# Altium footprint library con-molex-micro-fit-3_0.PCBLIB: 194 footprints (part 7 of 13)
Each footprint in its own frame and in the unit in brackets; x right, y up, seen from the top. Pads: shape width x height; smd on the part's side, far side on the other; paste and mask are expansions set on the pad; w line width, h text height; cw(c..) or ccw(c..) is an arc to the next point about the centre after c.
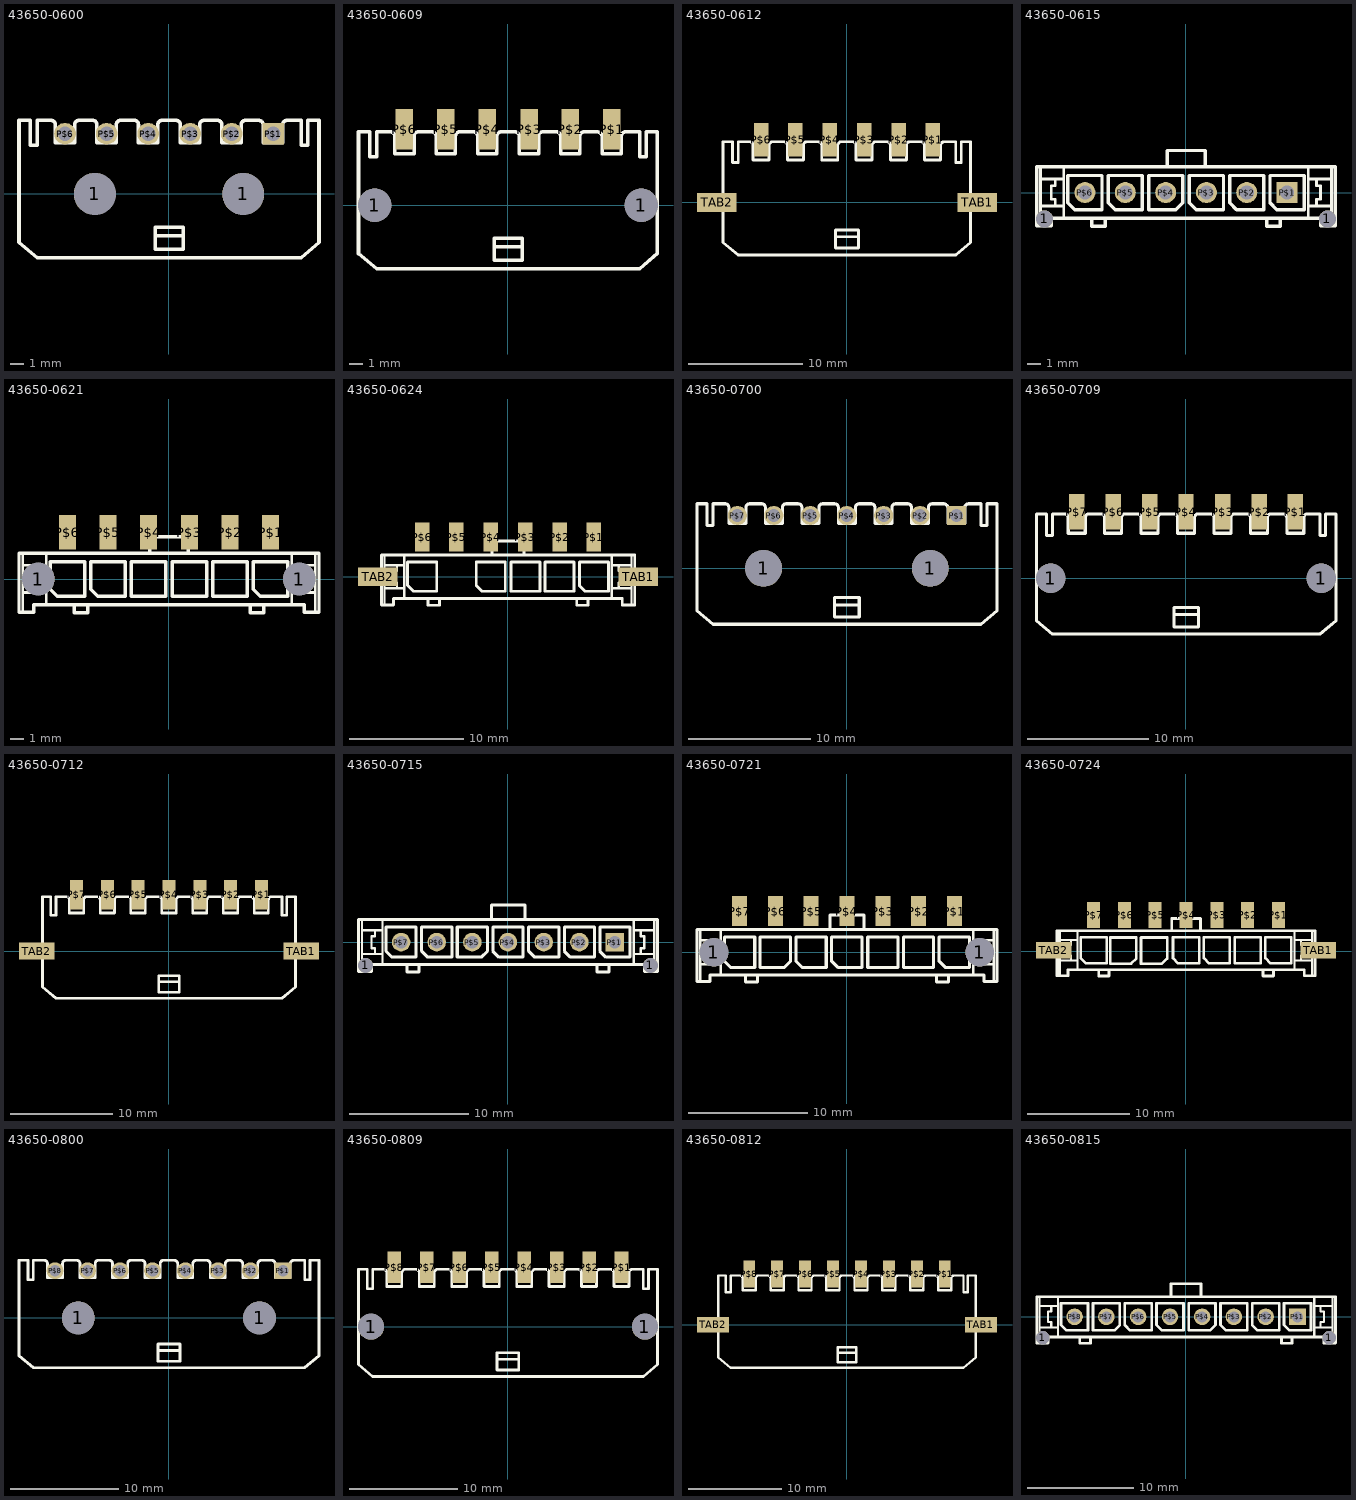
[diagram p6: the footprints below, top view; thin cyan lines are the x and y axes]

## 43650-0600 [mil]
pads (8):
  round 119 hole 119: 1(-210.63,0) 1(211,0)
  rect 61.5x61.5 hole 41: P$1(296,171)
  round 61.5 hole 41: P$2(178,171) P$3(60,171) P$4(-59.06,171) P$5(-177.17,171) P$6(-295.28,171)
Top Overlay:
  lines w10: -39.37,-118.11 -39.37,-157.48 40,-157.48 40,-118.11 ; -39.37,-118.11 -39.37,-94.49 40,-94.49 40,-118.11 ; -39.37,-118.11 40,-118.11 ; -425.98,-137.8 -425.98,209 -393.7,209 -393.7,138 -374.02,138 -374.02,209 -334.65,209 cw(c-334.74,197.09) -322.83,197 -322.83,146 -267.72,146 -267.72,197 cw(c-255.81,197.09) -255.91,209 -216.54,209 cw(c-216.63,197.09) -204.72,197 -204.72,146 -149.61,146 -149.61,197 cw(c-137.7,197.09) -137.8,209 -98.43,209 cw(c-98.52,197.09) -86.61,197 -86.61,146 -31.5,146 -31.5,197 cw(c-19.59,197.09) -19.69,209 20,209 cw(c20,197) 32,197 32,146 87,146 87,197 cw(c99,197) 99,209 138,209 cw(c138,197) 150,197 150,146 205,146 205,197 cw(c217,197) 217,209 256,209 cw(c254,195) 268,197 268,146 323,146 323,197 cw(c335,197) 335,209 375,209 375,138 394,138 394,209 426,209 426,-137.8 375,-181.1 -374.02,-181.1 -425.98,-137.8

## 43650-0609 [mil]
pads (8):
  round 95 hole 95: 1(-379.92,0) 1(380,0)
  rect 50x115 smd: P$1(296,216) P$2(178,216) P$3(60,216) P$4(-59.06,216) P$5(-177.17,216) P$6(-295.28,216)
Top Overlay:
  lines w10: -39.37,-118.11 -39.37,-157.48 40,-157.48 40,-118.11 ; -39.37,-118.11 -39.37,-94.49 40,-94.49 40,-118.11 ; -39.37,-118.11 40,-118.11 ; -425.98,-137.8 -425.98,209 -393.7,209 -393.7,138 -374.02,138 -374.02,209 -334.65,209 cw(c-334.74,197.09) -322.83,197 -322.83,146 -267.72,146 -267.72,197 cw(c-255.81,197.09) -255.91,209 -216.54,209 cw(c-216.63,197.09) -204.72,197 -204.72,146 -149.61,146 -149.61,197 cw(c-137.7,197.09) -137.8,209 -98.43,209 cw(c-98.52,197.09) -86.61,197 -86.61,146 -31.5,146 -31.5,197 cw(c-19.59,197.09) -19.69,209 20,209 cw(c20,197) 32,197 32,146 87,146 87,197 cw(c99,197) 99,209 138,209 cw(c138,197) 150,197 150,146 205,146 205,197 cw(c217,197) 217,209 256,209 cw(c254,195) 268,197 268,146 323,146 323,197 cw(c335,197) 335,209 375,209 375,138 394,138 394,209 426,209 426,-137.8 375,-181.1 -374.02,-181.1 -425.98,-137.8

## 43650-0612 [mil]
pads (8):
  rect 50x115 smd: P$1(296,216) P$2(178,216) P$3(60,216) P$4(-59.06,216) P$5(-177.17,216) P$6(-295.28,216)
  rect 136x65 smd: TAB1(449,0) TAB2(-448.03,0)
Top Overlay:
  lines w10: -39.37,-118.11 -39.37,-157.48 40,-157.48 40,-118.11 ; -39.37,-118.11 -39.37,-94.49 40,-94.49 40,-118.11 ; -39.37,-118.11 40,-118.11 ; -425.98,-137.8 -425.98,209 -393.7,209 -393.7,138 -374.02,138 -374.02,209 -334.65,209 cw(c-334.74,197.09) -322.83,197 -322.83,146 -267.72,146 -267.72,197 cw(c-255.81,197.09) -255.91,209 -216.54,209 cw(c-216.63,197.09) -204.72,197 -204.72,146 -149.61,146 -149.61,197 cw(c-137.7,197.09) -137.8,209 -98.43,209 cw(c-98.52,197.09) -86.61,197 -86.61,146 -31.5,146 -31.5,197 cw(c-19.59,197.09) -19.69,209 20,209 cw(c20,197) 32,197 32,146 87,146 87,197 cw(c99,197) 99,209 138,209 cw(c138,197) 150,197 150,146 205,146 205,197 cw(c217,197) 217,209 256,209 cw(c254,195) 268,197 268,146 323,146 323,197 cw(c335,197) 335,209 375,209 375,138 394,138 394,209 426,209 426,-137.8 375,-181.1 -374.02,-181.1 -425.98,-137.8

## 43650-0615 [mil]
pads (8):
  round 50 hole 50: 1(-413.39,-77.17) 1(414,-77.17)
  rect 61.5x61.5 hole 41: P$1(296,0)
  round 61.5 hole 41: P$2(178,0) P$3(60,0) P$4(-59.06,0) P$5(-177.17,0) P$6(-295.28,0)
Top Overlay:
  lines w8: -425.2,-97.24 -425.2,-39.37 ; -425.2,75 -425.2,40 ; -357.09,-74.8 -357.09,-39.37 ; -357.09,75 -357.09,40 ; 358,-74.8 358,-39.37 ; 358,75 358,40 ; 426,-97.24 426,-39.37 ; 426,75 426,40 ; -425.2,-39.37 -425.2,40 ; -425.2,-39.37 -381.89,-39.37 ; -425.2,40 -381.89,40 ; -381.89,-39.37 -357.09,-39.37 ; -381.89,-39.37 -381.89,-19.68 -393.7,-19.68 -393.7,20 -381.89,20 -381.89,40 ; -381.89,40 -357.09,40 ; -357.09,-39.37 -357.09,40 ; 358,-39.37 358,40 ; 358,-39.37 382,-39.37 ; 358,40 382,40 ; 382,-39.37 426,-39.37 ; 382,-39.37 382,-19.68 394,-19.68 394,20 382,20 382,40 ; 382,40 426,40 ; 426,-39.37 426,40
  lines w10: -275.59,-74.8 -236.22,-74.8 ; -275.59,-74.8 -357.09,-74.8 -393.7,-74.8 -393.7,-97.24 -425.2,-97.24 -436.02,-97.24 -436.02,75 -425.2,75 -357.09,75 -55.12,75 ; -275.59,-74.8 -275.59,-98.43 -236.22,-98.43 -236.22,-74.8 ; -236.22,-74.8 237,-74.8 ; -55.12,75 56,75 ; -55.12,75 -55.12,123 56,123 56,75 ; 56,75 358,75 426,75 437,75 437,-97.24 426,-97.24 394,-97.24 394,-74.8 358,-74.8 276,-74.8 ; 237,-74.8 276,-74.8 ; 237,-74.8 237,-98.43 276,-98.43 276,-74.8 ; -345.28,-30 -345.28,50 -245.28,50 -245.28,-50 -325.28,-50 -345.28,-30 ; -227.17,-30 -227.17,50 -127.17,50 -127.17,-50 -207.17,-50 -227.17,-30 ; -109.06,-50 -109.06,50 -9.06,50 -9.06,-30 -29.06,-50 -109.06,-50 ; 10,-30 10,50 110,50 110,-50 30,-50 10,-30 ; 128,-30 128,50 228,50 228,-50 148,-50 128,-30 ; 246,-30 246,50 346,50 346,-50 266,-50 246,-30

## 43650-0621 [mil]
pads (8):
  round 95 hole 95: 1(-379.92,0) 1(380,0)
  rect 50x100 smd: P$1(296,136) P$2(178,136) P$3(60,136) P$4(-59.06,136) P$5(-177.17,136) P$6(-295.28,136)
Top Overlay:
  lines w8: -425.2,-97.24 -425.2,-39.37 ; -425.2,75 -425.2,40 ; -357.09,-74.8 -357.09,-39.37 ; -357.09,75 -357.09,40 ; 358,-74.8 358,-39.37 ; 358,75 358,40 ; 426,-97.24 426,-39.37 ; 426,75 426,40 ; -425.2,-39.37 -425.2,40 ; -425.2,-39.37 -381.89,-39.37 ; -425.2,40 -381.89,40 ; -381.89,-39.37 -357.09,-39.37 ; -381.89,-39.37 -381.89,-19.68 -393.7,-19.68 -393.7,20 -381.89,20 -381.89,40 ; -381.89,40 -357.09,40 ; -357.09,-39.37 -357.09,40 ; 358,-39.37 358,40 ; 358,-39.37 382,-39.37 ; 358,40 382,40 ; 382,-39.37 426,-39.37 ; 382,-39.37 382,-19.68 394,-19.68 394,20 382,20 382,40 ; 382,40 426,40 ; 426,-39.37 426,40
  lines w10: -275.59,-74.8 -236.22,-74.8 ; -275.59,-74.8 -357.09,-74.8 -393.7,-74.8 -393.7,-97.24 -425.2,-97.24 -436.02,-97.24 -436.02,75 -425.2,75 -357.09,75 -55.12,75 ; -275.59,-74.8 -275.59,-98.43 -236.22,-98.43 -236.22,-74.8 ; -236.22,-74.8 237,-74.8 ; -55.12,75 56,75 ; -55.12,75 -55.12,123 56,123 56,75 ; 56,75 358,75 426,75 437,75 437,-97.24 426,-97.24 394,-97.24 394,-74.8 358,-74.8 276,-74.8 ; 237,-74.8 276,-74.8 ; 237,-74.8 237,-98.43 276,-98.43 276,-74.8 ; -345.28,-30 -345.28,50 -245.28,50 -245.28,-50 -325.28,-50 -345.28,-30 ; -227.17,-30 -227.17,50 -127.17,50 -127.17,-50 -207.17,-50 -227.17,-30 ; -109.06,-50 -9.06,-50 -9.06,50 -109.06,50 -109.06,-50 ; 10,-50 110,-50 110,50 10,50 10,-50 ; 128,-50 228,-50 228,50 128,50 128,-50 ; 246,-30 246,50 346,50 346,-50 266,-50 246,-30

## 43650-0624 [mil]
pads (8):
  rect 50x100 smd: P$1(296,136) P$2(178,136) P$3(60,136) P$4(-59.06,136) P$5(-177.17,136) P$6(-295.28,136)
  rect 136x65 smd: TAB1(449,0) TAB2(-448.43,0)
Top Overlay:
  lines w8: -425.2,-97.24 -425.2,-39.37 ; -425.2,75 -425.2,40 ; -357.09,-74.8 -357.09,-39.37 ; -357.09,75 -357.09,40 ; 358,-74.8 358,-39.37 ; 358,75 358,40 ; 426,-97.24 426,-39.37 ; 426,75 426,40 ; -425.2,-39.37 -425.2,40 ; -425.2,-39.37 -381.89,-39.37 ; -425.2,40 -381.89,40 ; -381.89,-39.37 -357.09,-39.37 ; -381.89,-39.37 -381.89,-19.68 -393.7,-19.68 -393.7,20 -381.89,20 -381.89,40 ; -381.89,40 -357.09,40 ; -357.09,-39.37 -357.09,40 ; 358,-39.37 358,40 ; 358,-39.37 382,-39.37 ; 358,40 382,40 ; 382,-39.37 426,-39.37 ; 382,-39.37 382,-19.68 394,-19.68 394,20 382,20 382,40 ; 382,40 426,40 ; 426,-39.37 426,40
  lines w10: -275.59,-74.8 -236.22,-74.8 ; -275.59,-74.8 -357.09,-74.8 -393.7,-74.8 -393.7,-97.24 -425.2,-97.24 -436.02,-97.24 -436.02,75 -425.2,75 -357.09,75 -55.12,75 ; -275.59,-74.8 -275.59,-98.43 -236.22,-98.43 -236.22,-74.8 ; -236.22,-74.8 237,-74.8 ; -55.12,75 56,75 ; -55.12,75 -55.12,123 56,123 56,75 ; 56,75 358,75 426,75 437,75 437,-97.24 426,-97.24 394,-97.24 394,-74.8 358,-74.8 276,-74.8 ; 237,-74.8 276,-74.8 ; 237,-74.8 237,-98.43 276,-98.43 276,-74.8 ; -345.28,-30 -345.28,50 -245.28,50 -245.28,-50 -325.28,-50 -345.28,-30 ; -109.06,-30 -109.06,50 -9.06,50 -9.06,-50 -89.06,-50 -109.06,-30 ; 10,-50 110,-50 110,50 10,50 10,-50 ; 128,-50 228,-50 228,50 128,50 128,-50 ; 246,-30 246,50 346,50 346,-50 266,-50 246,-30
Bottom Overlay:
  lines w10: -227.17,-50 -227.17,50 -127.17,50 -127.17,-30 -147.17,-50 -227.17,-50

## 43650-0700 [mil]
pads (9):
  round 119 hole 119: 1(-269.69,0) 1(270,0)
  rect 61.5x61.5 hole 41: P$1(355,171)
  round 61.5 hole 41: P$2(237,171) P$3(119,171) P$4(0,171) P$5(-118.11,171) P$6(-236.22,171) P$7(-354.33,171)
Top Overlay:
  lines w10: -39.37,-118.11 -39.37,-157.48 40,-157.48 40,-118.11 ; -39.37,-118.11 -39.37,-94.49 40,-94.49 40,-118.11 ; -39.37,-118.11 40,-118.11 ; -485.04,-137.8 -485.04,209 -452.76,209 -452.76,138 -433.07,138 -433.07,209 -393.7,209 cw(c-393.8,197.09) -381.89,197 -381.89,146 -326.77,146 -326.77,197 cw(c-314.87,197.09) -314.96,209 -275.59,209 cw(c-275.69,197.09) -263.78,197 -263.78,146 -208.66,146 -208.66,197 cw(c-196.76,197.09) -196.85,209 -157.48,209 cw(c-157.57,197.09) -145.67,197 -145.67,146 -90.55,146 -90.55,197 cw(c-78.65,197.09) -78.74,209 -39.37,209 cw(c-39.46,197.09) -27.56,197 -27.56,146 28,146 28,197 cw(c40,197) 40,209 79,209 cw(c79,197) 91,197 91,146 146,146 146,197 cw(c158,197) 158,209 197,209 cw(c197,197) 209,197 209,146 264,146 264,197 cw(c276,197) 276,209 315,209 cw(c313,195) 327,197 327,146 382,146 382,197 cw(c394,197) 394,209 434,209 434,138 453,138 453,209 486,209 486,-137.8 434,-181.1 -433.07,-181.1 -485.04,-137.8

## 43650-0709 [mil]
pads (9):
  round 95 hole 95: 1(-438.98,0) 1(439,0)
  rect 50x115 smd: P$1(355,216) P$2(237,216) P$3(119,216) P$4(0,216) P$5(-118.11,216) P$6(-236.22,216) P$7(-354.33,216)
Top Overlay:
  lines w10: -39.37,-118.11 -39.37,-157.48 40,-157.48 40,-118.11 ; -39.37,-118.11 -39.37,-94.49 40,-94.49 40,-118.11 ; -39.37,-118.11 40,-118.11 ; -485.04,-137.8 -485.04,209 -452.76,209 -452.76,138 -433.07,138 -433.07,209 -393.7,209 cw(c-393.8,197.09) -381.89,197 -381.89,146 -326.77,146 -326.77,197 cw(c-314.87,197.09) -314.96,209 -275.59,209 cw(c-275.69,197.09) -263.78,197 -263.78,146 -208.66,146 -208.66,197 cw(c-196.76,197.09) -196.85,209 -157.48,209 cw(c-157.57,197.09) -145.67,197 -145.67,146 -90.55,146 -90.55,197 cw(c-78.65,197.09) -78.74,209 -39.37,209 cw(c-39.46,197.09) -27.56,197 -27.56,146 28,146 28,197 cw(c40,197) 40,209 79,209 cw(c79,197) 91,197 91,146 146,146 146,197 cw(c158,197) 158,209 197,209 cw(c197,197) 209,197 209,146 264,146 264,197 cw(c276,197) 276,209 315,209 cw(c313,195) 327,197 327,146 382,146 382,197 cw(c394,197) 394,209 434,209 434,138 453,138 453,209 486,209 486,-137.8 434,-181.1 -433.07,-181.1 -485.04,-137.8

## 43650-0712 [mil]
pads (9):
  rect 50x115 smd: P$1(355,216) P$2(237,216) P$3(119,216) P$4(0,216) P$5(-118.11,216) P$6(-236.22,216) P$7(-354.33,216)
  rect 136x65 smd: TAB1(508,0) TAB2(-507.09,0)
Top Overlay:
  lines w10: -39.37,-118.11 -39.37,-157.48 40,-157.48 40,-118.11 ; -39.37,-118.11 -39.37,-94.49 40,-94.49 40,-118.11 ; -39.37,-118.11 40,-118.11 ; -485.04,-137.8 -485.04,209 -452.76,209 -452.76,138 -433.07,138 -433.07,209 -393.7,209 cw(c-393.8,197.09) -381.89,197 -381.89,146 -326.77,146 -326.77,197 cw(c-314.87,197.09) -314.96,209 -275.59,209 cw(c-275.69,197.09) -263.78,197 -263.78,146 -208.66,146 -208.66,197 cw(c-196.76,197.09) -196.85,209 -157.48,209 cw(c-157.57,197.09) -145.67,197 -145.67,146 -90.55,146 -90.55,197 cw(c-78.65,197.09) -78.74,209 -39.37,209 cw(c-39.46,197.09) -27.56,197 -27.56,146 28,146 28,197 cw(c40,197) 40,209 79,209 cw(c79,197) 91,197 91,146 146,146 146,197 cw(c158,197) 158,209 197,209 cw(c197,197) 209,197 209,146 264,146 264,197 cw(c276,197) 276,209 315,209 cw(c313,195) 327,197 327,146 382,146 382,197 cw(c394,197) 394,209 434,209 434,138 453,138 453,209 486,209 486,-137.8 434,-181.1 -433.07,-181.1 -485.04,-137.8

## 43650-0715 [mil]
pads (9):
  round 50 hole 50: 1(-472.44,-77.17) 1(473,-77.17)
  rect 61.5x61.5 hole 41: P$1(355,0)
  round 61.5 hole 41: P$2(237,0) P$3(119,0) P$4(0,0) P$5(-118.11,0) P$6(-236.22,0) P$7(-354.33,0)
Top Overlay:
  lines w8: -484.25,-97.24 -484.25,-39.37 ; -484.25,75 -484.25,40 ; -416.14,-74.8 -416.14,-39.37 ; -416.14,75 -416.14,40 ; 417,-74.8 417,-39.37 ; 417,75 417,40 ; 485,-97.24 485,-39.37 ; 485,75 485,40 ; -484.25,-39.37 -484.25,40 ; -484.25,-39.37 -440.94,-39.37 ; -484.25,40 -440.94,40 ; -440.94,-39.37 -416.14,-39.37 ; -440.94,-39.37 -440.94,-19.68 -452.76,-19.68 -452.76,20 -440.94,20 -440.94,40 ; -440.94,40 -416.14,40 ; -416.14,-39.37 -416.14,40 ; 417,-39.37 417,40 ; 417,-39.37 441,-39.37 ; 417,40 441,40 ; 441,-39.37 485,-39.37 ; 441,-39.37 441,-19.68 453,-19.68 453,20 441,20 441,40 ; 441,40 485,40 ; 485,-39.37 485,40
  lines w10: -334.65,-74.8 -295.28,-74.8 ; -334.65,-74.8 -416.14,-74.8 -452.76,-74.8 -452.76,-97.24 -484.25,-97.24 -495.08,-97.24 -495.08,75 -484.25,75 -416.14,75 -55.12,75 ; -334.65,-74.8 -334.65,-98.43 -295.28,-98.43 -295.28,-74.8 ; -295.28,-74.8 296,-74.8 ; -55.12,75 56,75 ; -55.12,75 -55.12,123 56,123 56,75 ; 56,75 417,75 485,75 496,75 496,-97.24 485,-97.24 453,-97.24 453,-74.8 417,-74.8 335,-74.8 ; 296,-74.8 335,-74.8 ; 296,-74.8 296,-98.43 335,-98.43 335,-74.8 ; -404.33,-30 -404.33,50 -304.33,50 -304.33,-50 -384.33,-50 -404.33,-30 ; -286.22,-30 -286.22,50 -186.22,50 -186.22,-50 -266.22,-50 -286.22,-30 ; -168.11,-50 -168.11,50 -68.11,50 -68.11,-30 -88.11,-50 -168.11,-50 ; -50,-30 -50,50 50,50 50,-50 -30,-50 -50,-30 ; 69,-30 69,50 169,50 169,-50 89,-50 69,-30 ; 187,-30 187,50 287,50 287,-50 207,-50 187,-30 ; 305,-30 305,50 405,50 405,-50 325,-50 305,-30

## 43650-0721 [mil]
pads (9):
  round 95 hole 95: 1(-438.98,0) 1(439,0)
  rect 50x100 smd: P$1(355,136) P$2(237,136) P$3(119,136) P$4(0,136) P$5(-118.11,136) P$6(-236.22,136) P$7(-354.33,136)
Top Overlay:
  lines w8: -484.25,-97.24 -484.25,-39.37 ; -484.25,75 -484.25,40 ; -416.14,-74.8 -416.14,-39.37 ; -416.14,75 -416.14,40 ; 417,-74.8 417,-39.37 ; 417,75 417,40 ; 485,-97.24 485,-39.37 ; 485,75 485,40 ; -484.25,-39.37 -484.25,40 ; -484.25,-39.37 -440.94,-39.37 ; -484.25,40 -440.94,40 ; -440.94,-39.37 -416.14,-39.37 ; -440.94,-39.37 -440.94,-19.68 -452.76,-19.68 -452.76,20 -440.94,20 -440.94,40 ; -440.94,40 -416.14,40 ; -416.14,-39.37 -416.14,40 ; 417,-39.37 417,40 ; 417,-39.37 441,-39.37 ; 417,40 441,40 ; 441,-39.37 485,-39.37 ; 441,-39.37 441,-19.68 453,-19.68 453,20 441,20 441,40 ; 441,40 485,40 ; 485,-39.37 485,40
  lines w10: -334.65,-74.8 -295.28,-74.8 ; -334.65,-74.8 -416.14,-74.8 -452.76,-74.8 -452.76,-97.24 -484.25,-97.24 -495.08,-97.24 -495.08,75 -484.25,75 -416.14,75 -55.12,75 ; -334.65,-74.8 -334.65,-98.43 -295.28,-98.43 -295.28,-74.8 ; -295.28,-74.8 296,-74.8 ; -55.12,75 56,75 ; -55.12,75 -55.12,123 56,123 56,75 ; 56,75 417,75 485,75 496,75 496,-97.24 485,-97.24 453,-97.24 453,-74.8 417,-74.8 335,-74.8 ; 296,-74.8 335,-74.8 ; 296,-74.8 296,-98.43 335,-98.43 335,-74.8 ; -404.33,-30 -404.33,50 -304.33,50 -304.33,-50 -384.33,-50 -404.33,-30 ; -286.22,-50 -286.22,50 -186.22,50 -186.22,-30 -206.22,-50 -286.22,-50 ; -168.11,-30 -168.11,50 -68.11,50 -68.11,-50 -148.11,-50 -168.11,-30 ; -50,-30 -50,50 50,50 50,-50 -30,-50 -50,-30 ; 69,-50 169,-50 169,50 69,50 69,-50 ; 187,-50 287,-50 287,50 187,50 187,-50 ; 305,-30 305,50 405,50 405,-50 325,-50 305,-30

## 43650-0724 [mil]
pads (9):
  rect 50x100 smd: P$1(356,138) P$2(238,138) P$3(120,138) P$4(2,138) P$5(-116.68,138) P$6(-234.79,138) P$7(-352.9,138)
  rect 136x65 smd: TAB1(509,3) TAB2(-506.05,3)
Top Overlay:
  lines w8: -482.82,-94.37 -482.82,-36.5 ; -482.82,78 -482.82,43 ; -414.71,-71.93 -414.71,-36.5 ; -414.71,78 -414.71,43 ; 418,-71.93 418,-36.5 ; 418,78 418,43 ; 486,-94.37 486,-36.5 ; 486,78 486,43 ; -482.82,-36.5 -482.82,43 ; -482.82,-36.5 -439.51,-36.5 ; -482.82,43 -439.51,43 ; -439.51,-36.5 -414.71,-36.5 ; -439.51,-36.5 -439.51,-16.81 -451.32,-16.81 -451.32,23 -439.51,23 -439.51,43 ; -439.51,43 -414.71,43 ; -414.71,-36.5 -414.71,43 ; 418,-36.5 418,43 ; 418,-36.5 443,-36.5 ; 418,43 443,43 ; 443,-36.5 486,-36.5 ; 443,-36.5 443,-16.81 455,-16.81 455,23 443,23 443,43 ; 443,43 486,43 ; 486,-36.5 486,43
  lines w10: -333.21,-71.93 -293.84,-71.93 ; -333.21,-71.93 -414.71,-71.93 -451.32,-71.93 -451.32,-94.37 -482.82,-94.37 -493.65,-94.37 -493.65,78 -482.82,78 -414.71,78 -53.69,78 ; -333.21,-71.93 -333.21,-95.55 -293.84,-95.55 -293.84,-71.93 ; -293.84,-71.93 297,-71.93 ; -53.69,78 57,78 ; -53.69,78 -53.69,125 57,125 57,78 ; 57,78 418,78 486,78 497,78 497,-94.37 486,-94.37 455,-94.37 455,-71.93 418,-71.93 337,-71.93 ; 297,-71.93 337,-71.93 ; 297,-71.93 297,-95.55 337,-95.55 337,-71.93 ; -402.9,-27.13 -402.9,53 -302.9,53 -302.9,-47.13 -382.9,-47.13 -402.9,-27.13 ; -289.09,-48.57 -289.09,52 -189.09,52 -189.09,-28.57 -209.09,-48.57 -289.09,-48.57 ; -170.98,-48.57 -170.98,52 -70.98,52 -70.98,-28.57 -90.98,-48.57 -170.98,-48.57 ; -48.57,-27.13 -48.57,53 52,53 52,-47.13 -28.57,-47.13 -48.57,-27.13 ; 70,-27.13 70,53 170,53 170,-47.13 90,-47.13 70,-27.13 ; 188,-47.13 288,-47.13 288,53 188,53 188,-47.13 ; 306,-27.13 306,53 406,53 406,-47.13 326,-47.13 306,-27.13

## 43650-0800 [mil]
pads (10):
  round 119 hole 119: 1(-328.74,0) 1(329,0)
  rect 61.5x61.5 hole 41: P$1(414,171)
  round 61.5 hole 41: P$2(296,171) P$3(178,171) P$4(60,171) P$5(-59.06,171) P$6(-177.17,171) P$7(-295.28,171) P$8(-413.39,171)
Top Overlay:
  lines w10: -39.37,-118.11 -39.37,-157.48 40,-157.48 40,-118.11 ; -39.37,-118.11 -39.37,-94.49 40,-94.49 40,-118.11 ; -39.37,-118.11 40,-118.11 ; -544.09,-137.8 -544.09,209 -511.81,209 -511.81,138 -492.13,138 -492.13,209 -452.76,209 cw(c-452.85,197.09) -440.94,197 -440.94,146 -385.83,146 -385.83,197 cw(c-373.92,197.09) -374.02,209 -334.65,209 cw(c-334.74,197.09) -322.83,197 -322.83,146 -267.72,146 -267.72,197 cw(c-255.81,197.09) -255.91,209 -216.54,209 cw(c-216.63,197.09) -204.72,197 -204.72,146 -149.61,146 -149.61,197 cw(c-137.7,197.09) -137.8,209 -98.43,209 cw(c-98.52,197.09) -86.61,197 -86.61,146 -31.5,146 -31.5,197 cw(c-19.59,197.09) -19.69,209 20,209 cw(c20,197) 32,197 32,146 87,146 87,197 cw(c99,197) 99,209 138,209 cw(c138,197) 150,197 150,146 205,146 205,197 cw(c217,197) 217,209 256,209 cw(c256,197) 268,197 268,146 323,146 323,197 cw(c335,197) 335,209 375,209 cw(c372.5,195.67) 386,197 386,146 441,146 441,197 cw(c453,197) 453,209 493,209 493,138 512,138 512,209 545,209 545,-137.8 493,-181.1 -492.13,-181.1 -544.09,-137.8

## 43650-0809 [mil]
pads (10):
  round 95 hole 95: 1(-498.03,0) 1(499,0)
  rect 50x115 smd: P$1(414,216) P$2(296,216) P$3(178,216) P$4(60,216) P$5(-59.06,216) P$6(-177.17,216) P$7(-295.28,216) P$8(-413.39,216)
Top Overlay:
  lines w10: -39.37,-118.11 -39.37,-157.48 40,-157.48 40,-118.11 ; -39.37,-118.11 -39.37,-94.49 40,-94.49 40,-118.11 ; -39.37,-118.11 40,-118.11 ; -544.09,-137.8 -544.09,209 -511.81,209 -511.81,138 -492.13,138 -492.13,209 -452.76,209 cw(c-452.85,197.09) -440.94,197 -440.94,146 -385.83,146 -385.83,197 cw(c-373.92,197.09) -374.02,209 -334.65,209 cw(c-334.74,197.09) -322.83,197 -322.83,146 -267.72,146 -267.72,197 cw(c-255.81,197.09) -255.91,209 -216.54,209 cw(c-216.63,197.09) -204.72,197 -204.72,146 -149.61,146 -149.61,197 cw(c-137.7,197.09) -137.8,209 -98.43,209 cw(c-98.52,197.09) -86.61,197 -86.61,146 -31.5,146 -31.5,197 cw(c-19.59,197.09) -19.69,209 20,209 cw(c20,197) 32,197 32,146 87,146 87,197 cw(c99,197) 99,209 138,209 cw(c138,197) 150,197 150,146 205,146 205,197 cw(c217,197) 217,209 256,209 cw(c256,197) 268,197 268,146 323,146 323,197 cw(c335,197) 335,209 375,209 cw(c372.5,195.67) 386,197 386,146 441,146 441,197 cw(c453,197) 453,209 493,209 493,138 512,138 512,209 545,209 545,-137.8 493,-181.1 -492.13,-181.1 -544.09,-137.8

## 43650-0812 [mil]
pads (10):
  rect 50x115 smd: P$1(414,216) P$2(296,216) P$3(178,216) P$4(60,216) P$5(-59.06,216) P$6(-177.17,216) P$7(-295.28,216) P$8(-413.39,216)
  rect 136x65 smd: TAB1(567,0) TAB2(-566.14,0)
Top Overlay:
  lines w10: -39.37,-118.11 -39.37,-157.48 40,-157.48 40,-118.11 ; -39.37,-118.11 -39.37,-94.49 40,-94.49 40,-118.11 ; -39.37,-118.11 40,-118.11 ; -544.09,-137.8 -544.09,209 -511.81,209 -511.81,138 -492.13,138 -492.13,209 -452.76,209 cw(c-452.85,197.09) -440.94,197 -440.94,146 -385.83,146 -385.83,197 cw(c-373.92,197.09) -374.02,209 -334.65,209 cw(c-334.74,197.09) -322.83,197 -322.83,146 -267.72,146 -267.72,197 cw(c-255.81,197.09) -255.91,209 -216.54,209 cw(c-216.63,197.09) -204.72,197 -204.72,146 -149.61,146 -149.61,197 cw(c-137.7,197.09) -137.8,209 -98.43,209 cw(c-98.52,197.09) -86.61,197 -86.61,146 -31.5,146 -31.5,197 cw(c-19.59,197.09) -19.69,209 20,209 cw(c20,197) 32,197 32,146 87,146 87,197 cw(c99,197) 99,209 138,209 cw(c138,197) 150,197 150,146 205,146 205,197 cw(c217,197) 217,209 256,209 cw(c256,197) 268,197 268,146 323,146 323,197 cw(c335,197) 335,209 375,209 cw(c372.5,195.67) 386,197 386,146 441,146 441,197 cw(c453,197) 453,209 493,209 493,138 512,138 512,209 545,209 545,-137.8 493,-181.1 -492.13,-181.1 -544.09,-137.8

## 43650-0815 [mil]
pads (10):
  round 50 hole 50: 1(-531.5,-77.17) 1(532,-77.17)
  rect 61.5x61.5 hole 41: P$1(414,0)
  round 61.5 hole 41: P$2(296,0) P$3(178,0) P$4(60,0) P$5(-59.06,0) P$6(-177.17,0) P$7(-295.28,0) P$8(-413.39,0)
Top Overlay:
  lines w8: -543.31,-97.24 -543.31,-39.37 ; -543.31,75 -543.31,40 ; -475.2,-74.8 -475.2,-39.37 ; -475.2,75 -475.2,40 ; 476,-74.8 476,-39.37 ; 476,75 476,40 ; 544,-97.24 544,-39.37 ; 544,75 544,40 ; -543.31,-39.37 -543.31,40 ; -543.31,-39.37 -500,-39.37 ; -543.31,40 -500,40 ; -500,-39.37 -475.2,-39.37 ; -500,-39.37 -500,-19.68 -511.81,-19.68 -511.81,20 -500,20 -500,40 ; -500,40 -475.2,40 ; -475.2,-39.37 -475.2,40 ; 476,-39.37 476,40 ; 476,-39.37 500,-39.37 ; 476,40 500,40 ; 500,-39.37 544,-39.37 ; 500,-39.37 500,-19.68 512,-19.68 512,20 500,20 500,40 ; 500,40 544,40 ; 544,-39.37 544,40
  lines w10: -393.7,-74.8 -354.33,-74.8 ; -393.7,-74.8 -475.2,-74.8 -511.81,-74.8 -511.81,-97.24 -543.31,-97.24 -554.13,-97.24 -554.13,75 -543.31,75 -475.2,75 -55.12,75 ; -393.7,-74.8 -393.7,-98.43 -354.33,-98.43 -354.33,-74.8 ; -354.33,-74.8 355,-74.8 ; -55.12,75 56,75 ; -55.12,75 -55.12,123 56,123 56,75 ; 56,75 476,75 544,75 555,75 555,-97.24 544,-97.24 512,-97.24 512,-74.8 476,-74.8 394,-74.8 ; 355,-74.8 394,-74.8 ; 355,-74.8 355,-98.43 394,-98.43 394,-74.8 ; -463.39,-30 -463.39,50 -363.39,50 -363.39,-50 -443.39,-50 -463.39,-30 ; -345.28,-50 -345.28,50 -245.28,50 -245.28,-30 -265.28,-50 -345.28,-50 ; -227.17,-30 -227.17,50 -127.17,50 -127.17,-50 -207.17,-50 -227.17,-30 ; -109.06,-30 -109.06,50 -9.06,50 -9.06,-50 -89.06,-50 -109.06,-30 ; 10,-50 10,50 110,50 110,-30 90,-50 10,-50 ; 128,-30 128,50 228,50 228,-50 148,-50 128,-30 ; 246,-30 246,50 346,50 346,-50 266,-50 246,-30 ; 364,-30 364,50 464,50 464,-50 384,-50 364,-30